# Altium schematic symbol library LIB-shematic.SchLib: 7 symbols
Pins are listed as number, name and electrical type; pins without a type are passive.

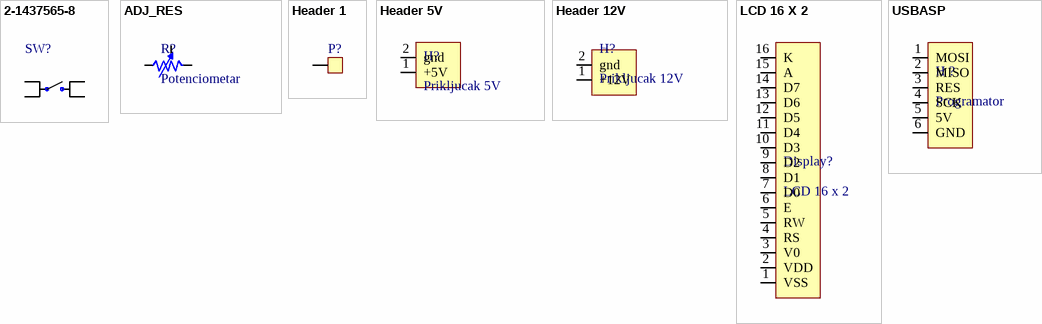
[diagram p0: symbols 2-1437565-8 to USBASP]

## 2-1437565-8
designator SW?  (value not drawn)
Tactile Switch SPST-NO Top Actuated Surface Mount; Configuration_Pole-Throw: Single Pole - Single Throw; MF: TE Connectivity; Contact_Current_Rating: 50 mA; Package: None; TE_purchase_URL: https://www.te.com/usa-en/product-2-1437565-8.html?te_bu=Cor&te_type=disp&te_campaign=seda_glo_cor-seda-global-disp-prtnr-fy19-seda-model-bom-cta_sma-317_1&elqCampaignId=32493; MP: 2-1437565-8; Price: None; SnapEDA_Link: https://www.snapeda.com/parts/2-1437565-8/TE%20Connectivity%20ALCOSWITCH%20Switches/view-part/455292/?ref=snap; Availability: Unavailable; Value: *
footprint *SW_SMD_2-1437565-8_4_4.50_6.00_6.00_5.00
pins: 1, 2, 3, 4

## ADJ_RES
designator R?, comment Potenciometar
footprint ADJ_RES (Promenljivi Otpornik)
pins: 1, 2, 3

## Header 1
designator P?
footprint Header 1
pins: 1

## Header 5V
designator H?, comment Prikljucak 5V
footprint H 5V (prikljucak 5 volti)
pins: 1 +5V, 2 gnd

## Header 12V
designator H?, comment Prikljucak 12V
footprint H 12V (prikljucak 12V)
pins: 1 +12V, 2 gnd

## LCD 16 X 2
designator Display?, comment LCD 16 x 2
footprint LCD16x2
pins: 1 VSS, 2 VDD, 3 V0, 4 RS, 5 RW, 6 E, 7 D0, 8 D1, 9 D2, 10 D3, 11 D4, 12 D5, 13 D6, 14 D7, 15 A, 16 K

## USBASP
designator H ?, comment Programator
footprint USBASP
pins: 1 MOSI, 2 MISO, 3 RES, 4 SCK, 5 5V, 6 GND